# Altium schematic symbol library Inverted_F.SchLib: 1 symbol
Pins are listed as number, name and electrical type; pins without a type are passive.

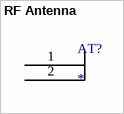
[diagram p0: symbol RF Antenna]

## RF Antenna
designator AT?
footprint PCBComponent_1
pins: 1, 2